# EAGLE library part 615016137621 (library Input-Output_Connectors_rev15d)
WR-MJ Horizontal Shielded Dual Port 8P8C Modular Jack Tab Down, 16 Pins=>Code : Con_I-O_MJ-H_Shielded_Down_615016137621 <http://katalog.we-online.de/media/images/eican/Con_I-O_MJ-H_Shielded_Down_615016137621_pf2.jpg> Details see: http://katalog.we-online.de/en/em/615_016_137_621 Created 2014-07-10, Karrer Zheng 2014 (C) Würth Elektronik
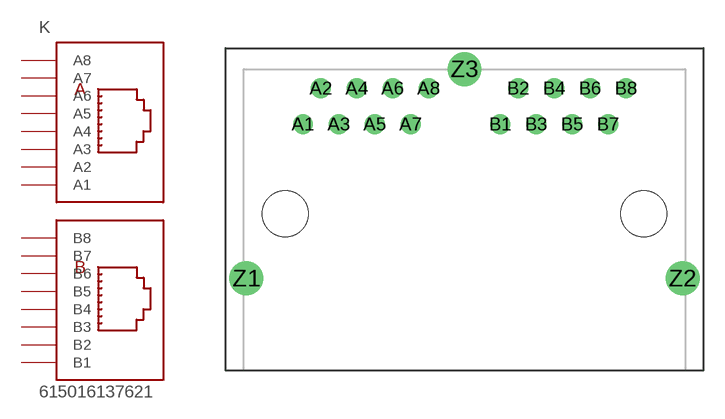
[diagram p127: symbol with the pads of 615016137621; footprint 615016137621]

Designator prefix K

## 615016137621  [615016137621]
A1  A1  pas
A2  A2  pas
A3  A3  pas
A4  A4  pas
A5  A5  pas
A6  A6  pas
A7  A7  pas
A8  A8  pas
B1  B1  pas
B2  B2  pas
B3  B3  pas
B4  B4  pas
B5  B5  pas
B6  B6  pas
B7  B7  pas
B8  B8  pas

## Footprint 615016137621 (pad centres in mm)
WR-MJ Horizontal Shielded Dual Port 8P8C Modular Jack Tab Down, 16 Pins
drill 0.9: A1 -11.43,-1.27; A2 -10.16,1.27; A3 -8.89,-1.27; A4 -7.62,1.27; A5 -6.35,-1.27; A6 -5.08,1.27; A7 -3.81,-1.27; A8 -2.54,1.27; B1 2.54,-1.27; B2 3.81,1.27; B3 5.08,-1.27; B4 6.35,1.27; B5 7.62,-1.27; B6 8.89,1.27; B7 10.16,-1.27; B8 11.43,1.27
drill 1.6: Z1 -15.435,-12.19; Z2 15.435,-12.19; Z3 0,2.62
hole 3.25 at -12.7,-7.62
hole 3.25 at 12.7,-7.62